# EAGLE library part ATSAMD21E18A-AU (library atmel-samd21)
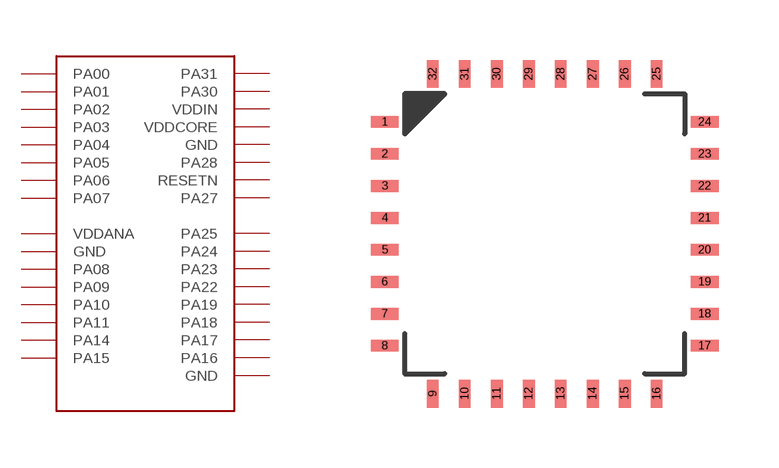
[diagram p1: symbol with the pads of 32-TQFP; footprint 32-TQFP]

Designator prefix -

## ATSAMD21E18A-AU  [32-TQFP]
1  PA00
2  PA01
3  PA02
4  PA03
5  PA04
6  PA05
7  PA06
8  PA07
9  VDDANA
10  GND
11  PA08
12  PA09
13  PA10
14  PA11
15  PA14
16  PA15
17  PA16
18  PA17
19  PA18
20  PA19
21  PA22
22  PA23
23  PA24
24  PA25
25  PA27
26  RESETN
27  PA28
28  GND
29  VDDCORE
30  VDDIN
31  PA30
32  PA31

## Footprint 32-TQFP (pad centres in mm)
smd 0.7 x 0.3: 1 -4,2.8; 2 -4,2; 3 -4,1.2; 4 -4,0.4; 5 -4,-0.4; 6 -4,-1.2; 7 -4,-2; 8 -4,-2.8; 17 4,-2.8; 18 4,-2; 19 4,-1.2; 20 4,-0.4; 21 4,0.4; 22 4,1.2; 23 4,2; 24 4,2.8
smd 0.3 x 0.7: 9 -2.8,-4; 10 -2,-4; 11 -1.2,-4; 12 -0.4,-4; 13 0.4,-4; 14 1.2,-4; 15 2,-4; 16 2.8,-4; 25 2.8,4; 26 2,4; 27 1.2,4; 28 0.4,4; 29 -0.4,4; 30 -1.2,4; 31 -2,4; 32 -2.8,4